# Altium footprint library RECOM_RS3K-Z.PcbLib: 1 footprints
Each footprint in its own frame and in the unit in brackets; x right, y up, seen from the top. Pads: shape width x height; smd on the part's side, far side on the other; paste and mask are expansions set on the pad; w line width, h text height; cw(c..) or ccw(c..) is an arc to the next point about the centre after c.
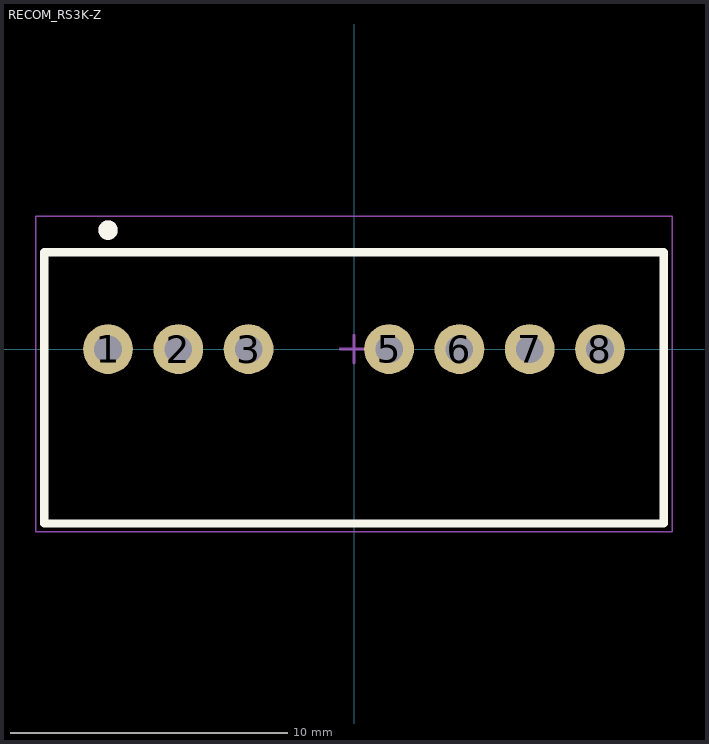
[diagram p0: the footprint, top view; thin cyan lines are the x and y axes]

## RECOM_RS3K-Z [mm]
height 11.6
pads (7):
  round 1.8 hole 1 mask+0.05: 1(-8.89,0) 2(-6.35,0) 3(-3.81,0) 5(1.27,0) 6(3.81,0) 7(6.35,0) 8(8.89,0)
Top Overlay:
  circle w0.5: c-8.89,4.3 r0.1
  lines w0.3: -11.2,-6.3 11.2,-6.3 11.2,3.5 -11.2,3.5 -11.2,-6.3
Mechanical 13:
  circle w0.5: c-8.89,4.3 r0.1
  lines w0.1: -11.15,-6.25 11.15,-6.25 11.15,3.45 -11.15,3.45 -11.15,-6.25
Mechanical 15:
  lines w0.05: -11.5,-6.6 -11.5,4.8 11.5,4.8 11.5,-6.6 -11.5,-6.6
  lines w0.1: -0.5,0 0.5,0 ; 0,-0.5 0,0.5
3D body: height 21.49, standoff 0, extent -11.15,-6.25 -11.15,3.45
3D body: height 11.6, standoff 0, extent -11.15,-6.25 11.15,3.45